# Altium footprint library SamacSys.PcbLib: 24 footprints (part 2 of 2)
Each footprint in its own frame and in the unit in brackets; x right, y up, seen from the top. Pads: shape width x height; smd on the part's side, far side on the other; paste and mask are expansions set on the pad; w line width, h text height; cw(c..) or ccw(c..) is an arc to the next point about the centre after c.
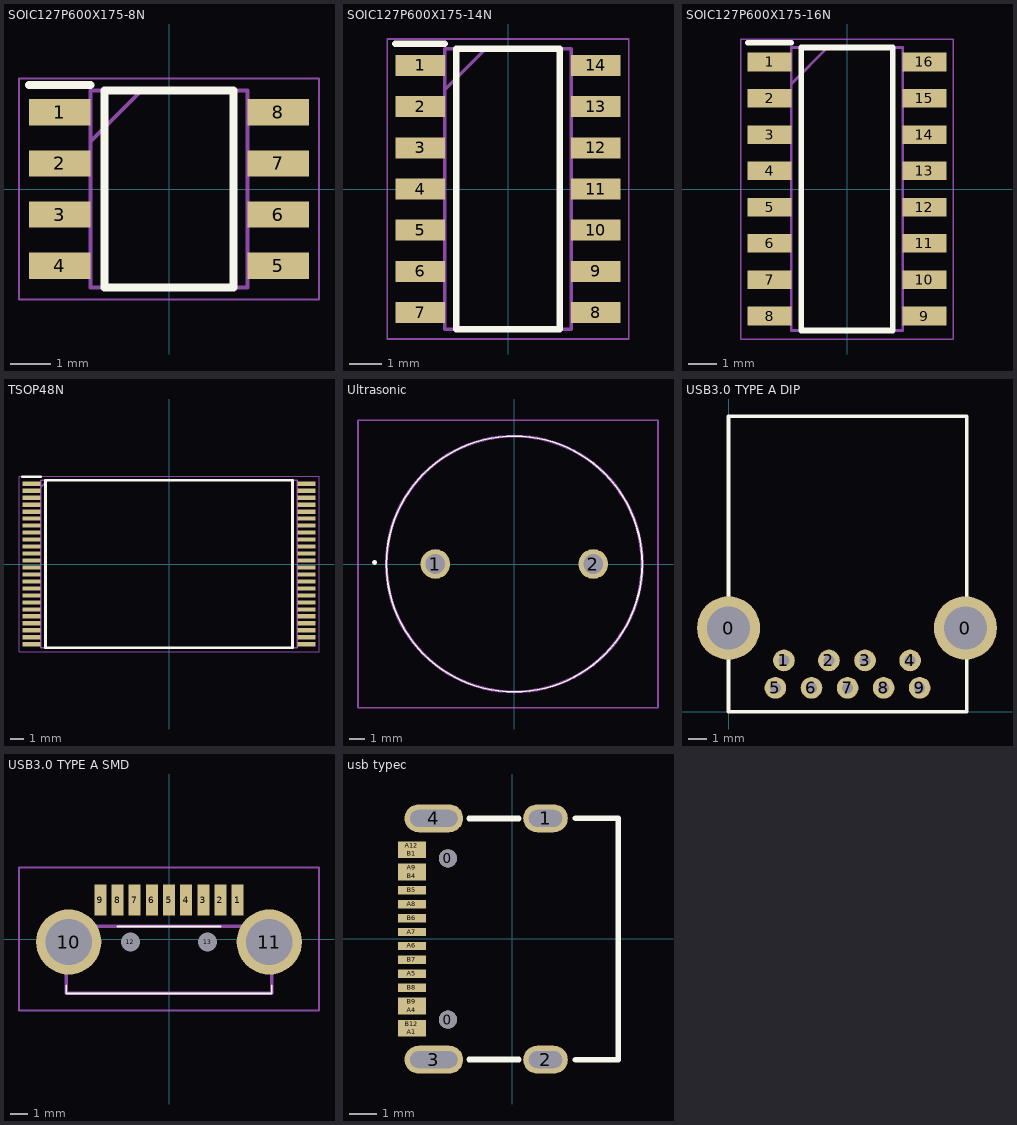
[diagram p1: the footprints below, top view; thin cyan lines are the x and y axes]

## SOIC127P600X175-8N [mm]
pads (8):
  rect 1.525x0.65 smd: 1(-2.712,1.905) 2(-2.712,0.635) 3(-2.712,-0.635) 4(-2.712,-1.905) 5(2.712,-1.905) 6(2.712,-0.635) 7(2.712,0.635) 8(2.712,1.905)
Top Overlay:
  lines w0.2: -3.475,2.58 -1.95,2.58 ; -1.6,-2.45 1.6,-2.45 1.6,2.45 -1.6,2.45 -1.6,-2.45
Mechanical 13:
  lines w0.1: -1.95,1.18 -0.68,2.45 ; -1.95,-2.45 1.95,-2.45 1.95,2.45 -1.95,2.45 -1.95,-2.45
Mechanical 15:
  lines w0.05: -3.725,-2.75 3.725,-2.75 3.725,2.75 -3.725,2.75 -3.725,-2.75
3D body "NE555DR.stp": height 1.75, standoff 0, extent -3,-2.45 3,2.45

## SOIC127P600X175-14N [mm]
pads (14):
  rect 1.525x0.65 smd: 1(-2.712,3.81) 2(-2.712,2.54) 3(-2.712,1.27) 4(-2.712,0) 5(-2.712,-1.27) 6(-2.712,-2.54) 7(-2.712,-3.81) 8(2.712,-3.81) 9(2.712,-2.54) 10(2.712,-1.27) 11(2.712,0) 12(2.712,1.27) 13(2.712,2.54) 14(2.712,3.81)
Top Overlay:
  lines w0.2: -3.475,4.485 -1.95,4.485 ; -1.6,-4.325 -1.6,4.325 1.6,4.325 1.6,-4.325 -1.6,-4.325
Mechanical 13:
  lines w0.1: -1.95,3.055 -0.68,4.325 ; -1.95,-4.325 -1.95,4.325 1.95,4.325 1.95,-4.325 -1.95,-4.325
Mechanical 15:
  lines w0.05: -3.725,-4.625 -3.725,4.625 3.725,4.625 3.725,-4.625 -3.725,-4.625
3D body "LMV324ID.stp": height 1.75, standoff 0, extent -3,-4.325 3,4.325

## SOIC127P600X175-16N [mm]
pads (16):
  rect 1.525x0.65 smd: 1(-2.712,4.445) 2(-2.712,3.175) 3(-2.712,1.905) 4(-2.712,0.635) 5(-2.712,-0.635) 6(-2.712,-1.905) 7(-2.712,-3.175) 8(-2.712,-4.445) 9(2.712,-4.445) 10(2.712,-3.175) 11(2.712,-1.905) 12(2.712,-0.635) 13(2.712,0.635) 14(2.712,1.905) 15(2.712,3.175) 16(2.712,4.445)
Top Overlay:
  lines w0.2: -3.475,5.12 -1.95,5.12 ; -1.6,-4.95 -1.6,4.95 1.6,4.95 1.6,-4.95 -1.6,-4.95
Mechanical 13:
  lines w0.1: -1.95,3.68 -0.68,4.95 ; -1.95,-4.95 -1.95,4.95 1.95,4.95 1.95,-4.95 -1.95,-4.95
Mechanical 15:
  lines w0.05: -3.725,-5.25 -3.725,5.25 3.725,5.25 3.725,-5.25 -3.725,-5.25
3D body "MAX232DRG4.stp": height 1.75, standoff 0, extent -3,-4.95 3,4.95

## TSOP48N [mm]
pads (48):
  rect 1.3x0.3 smd: 1(-9.85,5.75) 2(-9.85,5.25) 3(-9.85,4.75) 4(-9.85,4.25) 5(-9.85,3.75) 6(-9.85,3.25) 7(-9.85,2.75) 8(-9.85,2.25) 9(-9.85,1.75) 10(-9.85,1.25) 11(-9.85,0.75) 12(-9.85,0.25) 13(-9.85,-0.25) 14(-9.85,-0.75) 15(-9.85,-1.25) 16(-9.85,-1.75) 17(-9.85,-2.25) 18(-9.85,-2.75) 19(-9.85,-3.25) 20(-9.85,-3.75) 21(-9.85,-4.25) 22(-9.85,-4.75) 23(-9.85,-5.25) 24(-9.85,-5.75) 25(9.85,-5.75) 26(9.85,-5.25) 27(9.85,-4.75) 28(9.85,-4.25) 29(9.85,-3.75) 30(9.85,-3.25) 31(9.85,-2.75) 32(9.85,-2.25) 33(9.85,-1.75) 34(9.85,-1.25) 35(9.85,-0.75) 36(9.85,-0.25) 37(9.85,0.25) 38(9.85,0.75) 39(9.85,1.25) 40(9.85,1.75) 41(9.85,2.25) 42(9.85,2.75) 43(9.85,3.25) 44(9.85,3.75) 45(9.85,4.25) 46(9.85,4.75) 47(9.85,5.25) 48(9.85,5.75)
Top Overlay:
  lines w0.2: -10.5,6.25 -9.2,6.25 ; -8.85,-6 -8.85,6 8.85,6 8.85,-6 -8.85,-6
Mechanical 13:
  lines w0.1: -9.2,5.5 -8.7,6 ; -9.2,-6 -9.2,6 9.2,6 9.2,-6 -9.2,-6
Mechanical 15:
  lines w0.05: -10.75,-6.3 -10.75,6.3 10.75,6.3 10.75,-6.3 -10.75,-6.3
3D body "S34ML01G100TFI003.stp": height 1.2, standoff 0, extent -10,-6 10,6

## Ultrasonic [mm]
pads (2):
  round 1.875 hole 1.25: 1(-5,0) 2(5,0)
Top Overlay:
  lines w0.1: -8.1,0 ccw(c0,0) 8.1,0 ccw(c0,0) -8.1,0
  lines w0.2: -8.9,0.1 ccw(c-8.85,0.1) -8.8,0.1 ; -8.9,0.1 cw(c-8.85,0.1) -8.8,0.1 ; -8.9,0.1 ccw(c-8.85,0.1) -8.8,0.1
Mechanical 13:
  lines w0.2: -8.1,0 ccw(c0,0) 8.1,0 ccw(c0,0) -8.1,0
Mechanical 15:
  lines w0.1: -9.9,-9.1 9.1,-9.1 9.1,9.1 -9.9,9.1 -9.9,-9.1
3D body "UT-1640K-TT-2-R.stp": height 12.6, standoff -5, extent -8.1,-8.1 8.1,8.1

## USB3.0 TYPE A DIP [mm]
height 7
pads (11):
  round 3.5 hole 2.4: 0(0,4.65) 0(13.14,4.65)
  round 1.2 hole 0.6: 1(3.073,2.85) 2(5.57,2.85) 3(7.57,2.85) 4(10.07,2.85) 5(2.6,1.33) 6(4.6,1.33) 7(6.604,1.33) 8(8.6,1.33) 9(10.6,1.33)
Top Overlay:
  lines w0.2: 8.825,0 11.4,0 ; 13.2,0 0,0 0,16.4 13.2,16.4 ; 13.208,0 13.208,16.4

## USB3.0 TYPE A SMD [mm]
pads (13):
  rect 0.7x1.8 smd: 1(4,2.275) 2(3,2.275) 3(2,2.275) 4(1,2.275) 5(0,2.275) 6(-1,2.275) 7(-2,2.275) 8(-3,2.275) 9(-4,2.275)
  round 3.8 hole 2.693: 10(-5.85,-0.175) 11(5.85,-0.175)
  round 0.55 hole 1.1 unplated: 12(-2.25,-0.175) 13(2.25,-0.175)
Top Overlay:
  lines w0.1: -6,-2.715 -6,-3.175 6,-3.175 6,-2.715 ; -3,0.735 3,0.735
Mechanical 13:
  lines w0.2: -6,-3.175 6,-3.175 6,0.735 -6,0.735 -6,-3.175
Mechanical 15:
  lines w0.1: -8.75,-4.175 8.75,-4.175 8.75,4.175 -8.75,4.175 -8.75,-4.175

## usb typec [mm]
pads (22):
  round 0.65 hole 0.65: 0(-2.299,-2.905) 0(-2.299,2.875)
  oval 1.6x1 hole 0.6 slot 1.2 at 0 deg: 1(1.201,4.31) 2(1.201,-4.34)
  oval 2.1x1 hole 0.6 slot 1.7 at 0 deg: 3(-2.799,-4.34) 4(-2.799,4.31)
  rect 1x0.3 smd: A1(-3.589,-3.365) A4(-3.589,-2.565) A5(-3.589,-1.265) A6(-3.589,-0.265) A7(-3.589,0.235) A8(-3.589,1.235) A9(-3.589,2.535) A12(-3.589,3.335) B1(-3.589,3.035) B4(-3.589,2.235) B5(-3.589,1.735) B6(-3.589,0.735) B7(-3.589,-0.765) B8(-3.589,-1.765) B9(-3.589,-2.265) B12(-3.589,-3.065)
Top Overlay:
  lines w0.203: -1.537,-4.333 0.241,-4.333 ; -1.537,4.303 0.241,4.303 ; 2.273,-4.34 3.801,-4.34 3.801,4.31 2.273,4.31